# Altium schematic symbol library efm32.SchLib: 2 symbols
Pins are listed as number, name and electrical type; pins without a type are passive.

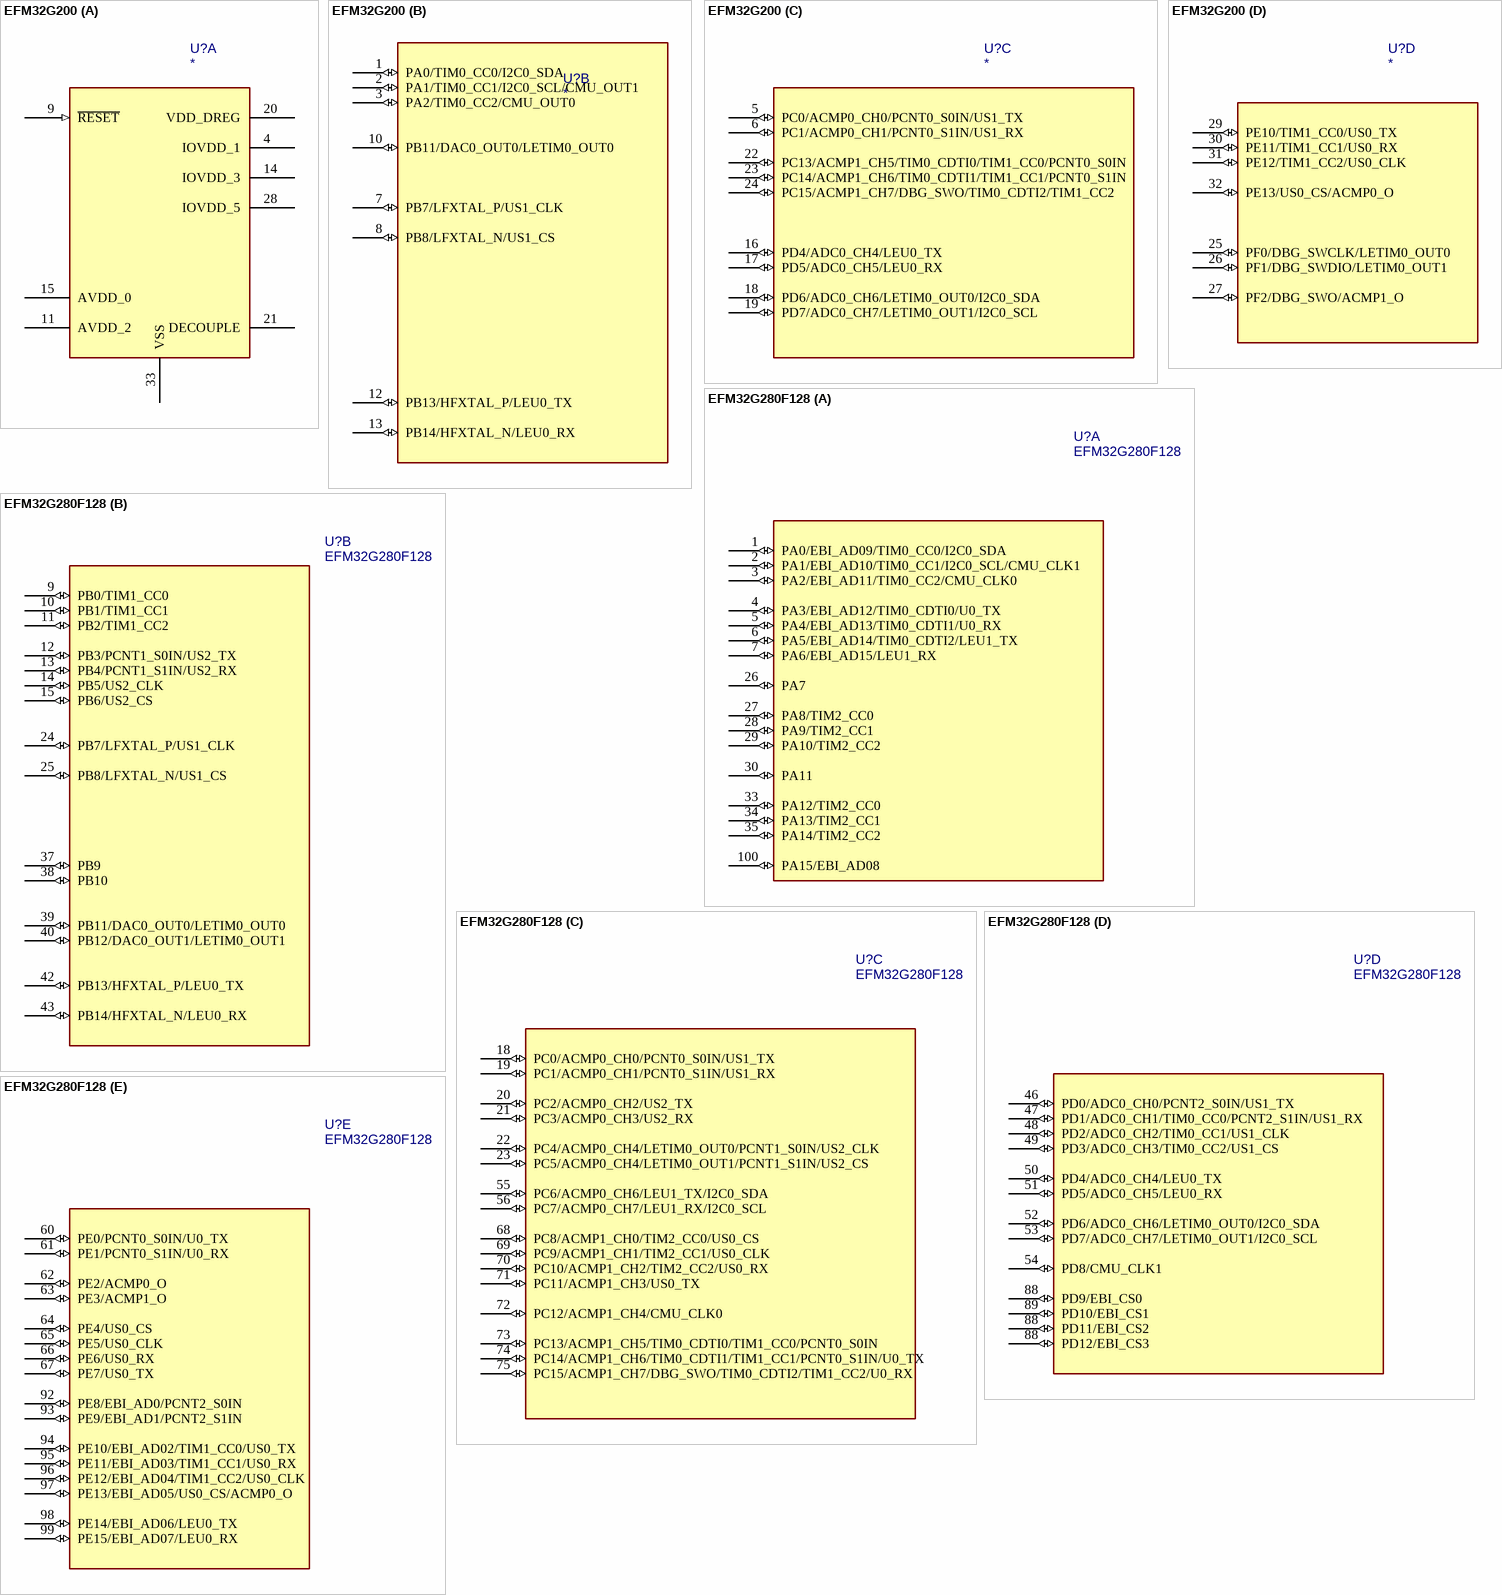
[diagram p0: symbols EFM32G200 to EFM32G280F128]

## EFM32G200
designator U?
EFM Microcontroller, Cortex M3, 128KB Flash, 16KB RAM; MF: Energy Micro; Value: EFM32G210F128; MF PN: EFM32G210F128; ExtraInfo: *; PN: *
footprint QFN32-N (QFN, 32-Leads, Body 6.0x6.0mm (max), Pitch 0.65mm, IPC Medium Density)
part A pins: 4 IOVDD_1 (power) "Digital IO power supply 1", 9 ~{RESET} (in), 11 AVDD_2 (power) "Analog power supply 2", 14 IOVDD_3 (power) "Digital power supply 3", 15 AVDD_0 (power) "Analog power supply 0", 20 VDD_DREG (power) "Power supply for on-chip voltage regulator", 21 DECOUPLE (power) "Decouple output for on-chip voltage regulator", 28 IOVDD_5 (power) "Digital IO power supply 5", 33 VSS (power)
part B pins: 1 PA0/TIM0_CC0/I2C0_SDA (io), 2 PA1/TIM0_CC1/I2C0_SCL/CMU_OUT1 (io), 3 PA2/TIM0_CC2/CMU_OUT0 (io), 7 PB7/LFXTAL_P/US1_CLK (io), 8 PB8/LFXTAL_N/US1_CS (io), 10 PB11/DAC0_OUT0/LETIM0_OUT0 (io), 12 PB13/HFXTAL_P/LEU0_TX (io), 13 PB14/HFXTAL_N/LEU0_RX (io)
part C pins: 5 PC0/ACMP0_CH0/PCNT0_S0IN/US1_TX (io), 6 PC1/ACMP0_CH1/PCNT0_S1IN/US1_RX (io), 16 PD4/ADC0_CH4/LEU0_TX (io), 17 PD5/ADC0_CH5/LEU0_RX (io), 18 PD6/ADC0_CH6/LETIM0_OUT0/I2C0_SDA (io), 19 PD7/ADC0_CH7/LETIM0_OUT1/I2C0_SCL (io), 22 PC13/ACMP1_CH5/TIM0_CDTI0/TIM1_CC0/PCNT0_S0IN (io), 23 PC14/ACMP1_CH6/TIM0_CDTI1/TIM1_CC1/PCNT0_S1IN (io), 24 PC15/ACMP1_CH7/DBG_SWO/TIM0_CDTI2/TIM1_CC2 (io)
part D pins: 25 PF0/DBG_SWCLK/LETIM0_OUT0 (io), 26 PF1/DBG_SWDIO/LETIM0_OUT1 (io), 27 PF2/DBG_SWO/ACMP1_O (io), 29 PE10/TIM1_CC0/US0_TX (io), 30 PE11/TIM1_CC1/US0_RX (io), 31 PE12/TIM1_CC2/US0_CLK (io), 32 PE13/US0_CS/ACMP0_O (io)

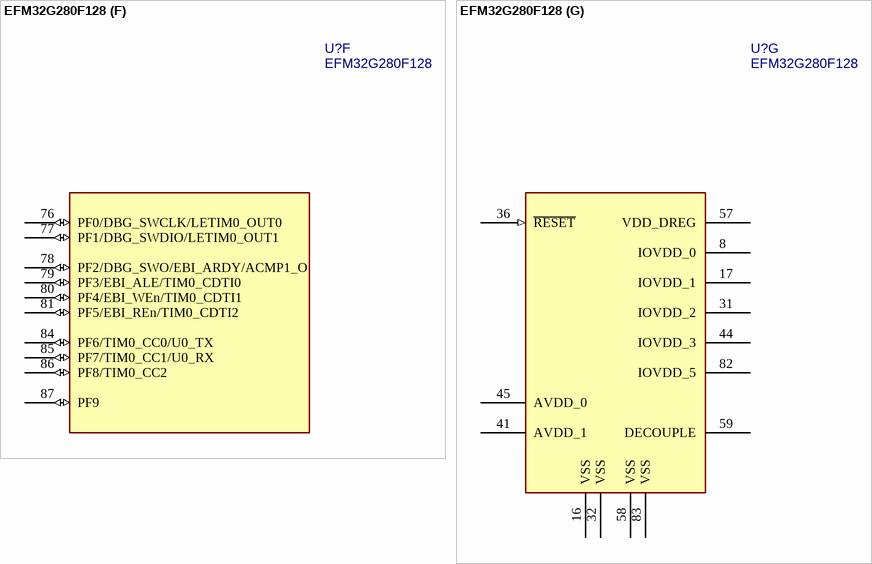
[diagram p1: symbol EFM32G280F128]

## EFM32G280F128
designator U?
EFM Microcontroller, Cortex M3, 128KB Flash, 16KB RAM; Value: EFM32G280F128; PN: *; Package: *; ExtraInfo: *
footprint LQFP100 (TSQFP, 100-Leads, Body 16.2x16.2mm (max), Pitch 0.50mm, IPC High Density)
part A pins: 1 PA0/EBI_AD09/TIM0_CC0/I2C0_SDA (io), 2 PA1/EBI_AD10/TIM0_CC1/I2C0_SCL/CMU_CLK1 (io), 3 PA2/EBI_AD11/TIM0_CC2/CMU_CLK0 (io), 4 PA3/EBI_AD12/TIM0_CDTI0/U0_TX (io), 5 PA4/EBI_AD13/TIM0_CDTI1/U0_RX (io), 6 PA5/EBI_AD14/TIM0_CDTI2/LEU1_TX (io), 7 PA6/EBI_AD15/LEU1_RX (io), 26 PA7 (io), 27 PA8/TIM2_CC0 (io), 28 PA9/TIM2_CC1 (io), 29 PA10/TIM2_CC2 (io), 30 PA11 (io), 33 PA12/TIM2_CC0 (io), 34 PA13/TIM2_CC1 (io), 35 PA14/TIM2_CC2 (io), 100 PA15/EBI_AD08 (io)
part B pins: 9 PB0/TIM1_CC0 (io), 10 PB1/TIM1_CC1 (io), 11 PB2/TIM1_CC2 (io), 12 PB3/PCNT1_S0IN/US2_TX (io), 13 PB4/PCNT1_S1IN/US2_RX (io), 14 PB5/US2_CLK (io), 15 PB6/US2_CS (io), 24 PB7/LFXTAL_P/US1_CLK (io), 25 PB8/LFXTAL_N/US1_CS (io), 37 PB9 (io), 38 PB10 (io), 39 PB11/DAC0_OUT0/LETIM0_OUT0 (io), 40 PB12/DAC0_OUT1/LETIM0_OUT1 (io), 42 PB13/HFXTAL_P/LEU0_TX (io), 43 PB14/HFXTAL_N/LEU0_RX (io)
part C pins: 18 PC0/ACMP0_CH0/PCNT0_S0IN/US1_TX (io), 19 PC1/ACMP0_CH1/PCNT0_S1IN/US1_RX (io), 20 PC2/ACMP0_CH2/US2_TX (io), 21 PC3/ACMP0_CH3/US2_RX (io), 22 PC4/ACMP0_CH4/LETIM0_OUT0/PCNT1_S0IN/US2_CLK (io), 23 PC5/ACMP0_CH4/LETIM0_OUT1/PCNT1_S1IN/US2_CS (io), 55 PC6/ACMP0_CH6/LEU1_TX/I2C0_SDA (io), 56 PC7/ACMP0_CH7/LEU1_RX/I2C0_SCL (io), 68 PC8/ACMP1_CH0/TIM2_CC0/US0_CS (io), 69 PC9/ACMP1_CH1/TIM2_CC1/US0_CLK (io), 70 PC10/ACMP1_CH2/TIM2_CC2/US0_RX (io), 71 PC11/ACMP1_CH3/US0_TX (io), 72 PC12/ACMP1_CH4/CMU_CLK0 (io), 73 PC13/ACMP1_CH5/TIM0_CDTI0/TIM1_CC0/PCNT0_S0IN (io), 74 PC14/ACMP1_CH6/TIM0_CDTI1/TIM1_CC1/PCNT0_S1IN/U0_TX (io), 75 PC15/ACMP1_CH7/DBG_SWO/TIM0_CDTI2/TIM1_CC2/U0_RX (io)
part D pins: 46 PD0/ADC0_CH0/PCNT2_S0IN/US1_TX (io), 47 PD1/ADC0_CH1/TIM0_CC0/PCNT2_S1IN/US1_RX (io), 48 PD2/ADC0_CH2/TIM0_CC1/US1_CLK (io), 49 PD3/ADC0_CH3/TIM0_CC2/US1_CS (io), 50 PD4/ADC0_CH4/LEU0_TX (io), 51 PD5/ADC0_CH5/LEU0_RX (io), 52 PD6/ADC0_CH6/LETIM0_OUT0/I2C0_SDA (io), 53 PD7/ADC0_CH7/LETIM0_OUT1/I2C0_SCL (io), 54 PD8/CMU_CLK1 (io), 88 PD9/EBI_CS0 (io), 88 PD11/EBI_CS2 (io), 88 PD12/EBI_CS3 (io), 89 PD10/EBI_CS1 (io)
part E pins: 60 PE0/PCNT0_S0IN/U0_TX (io), 61 PE1/PCNT0_S1IN/U0_RX (io), 62 PE2/ACMP0_O (io), 63 PE3/ACMP1_O (io), 64 PE4/US0_CS (io), 65 PE5/US0_CLK (io), 66 PE6/US0_RX (io), 67 PE7/US0_TX (io), 92 PE8/EBI_AD0/PCNT2_S0IN (io), 93 PE9/EBI_AD1/PCNT2_S1IN (io), 94 PE10/EBI_AD02/TIM1_CC0/US0_TX (io), 95 PE11/EBI_AD03/TIM1_CC1/US0_RX (io), 96 PE12/EBI_AD04/TIM1_CC2/US0_CLK (io), 97 PE13/EBI_AD05/US0_CS/ACMP0_O (io), 98 PE14/EBI_AD06/LEU0_TX (io), 99 PE15/EBI_AD07/LEU0_RX (io)
part F pins: 76 PF0/DBG_SWCLK/LETIM0_OUT0 (io), 77 PF1/DBG_SWDIO/LETIM0_OUT1 (io), 78 PF2/DBG_SWO/EBI_ARDY/ACMP1_O (io), 79 PF3/EBI_ALE/TIM0_CDTI0 (io), 80 PF4/EBI_WEn/TIM0_CDTI1 (io), 81 PF5/EBI_REn/TIM0_CDTI2 (io), 84 PF6/TIM0_CC0/U0_TX (io), 85 PF7/TIM0_CC1/U0_RX (io), 86 PF8/TIM0_CC2 (io), 87 PF9 (io)
part G pins: 8 IOVDD_0 (power) "Digital IO power supply 1", 16 VSS (power), 17 IOVDD_1 (power) "Digital power supply 3", 31 IOVDD_2 (power) "Digital IO power supply 5", 32 VSS (power), 36 ~{RESET} (in), 41 AVDD_1 (power) "Analog power supply 2", 44 IOVDD_3 (power) "Digital power supply 3", 45 AVDD_0 (power) "Analog power supply 0", 57 VDD_DREG (power) "Power supply for on-chip voltage regulator", 58 VSS (power), 59 DECOUPLE (power) "Decouple output for on-chip voltage regulator", 82 IOVDD_5 (power) "Digital IO power supply 5", 83 VSS (power)